# Altium schematic symbol library FIoT_BG96_1.SCHLIB: 21 symbols
Pins are listed as number, name and electrical type; pins without a type are passive.

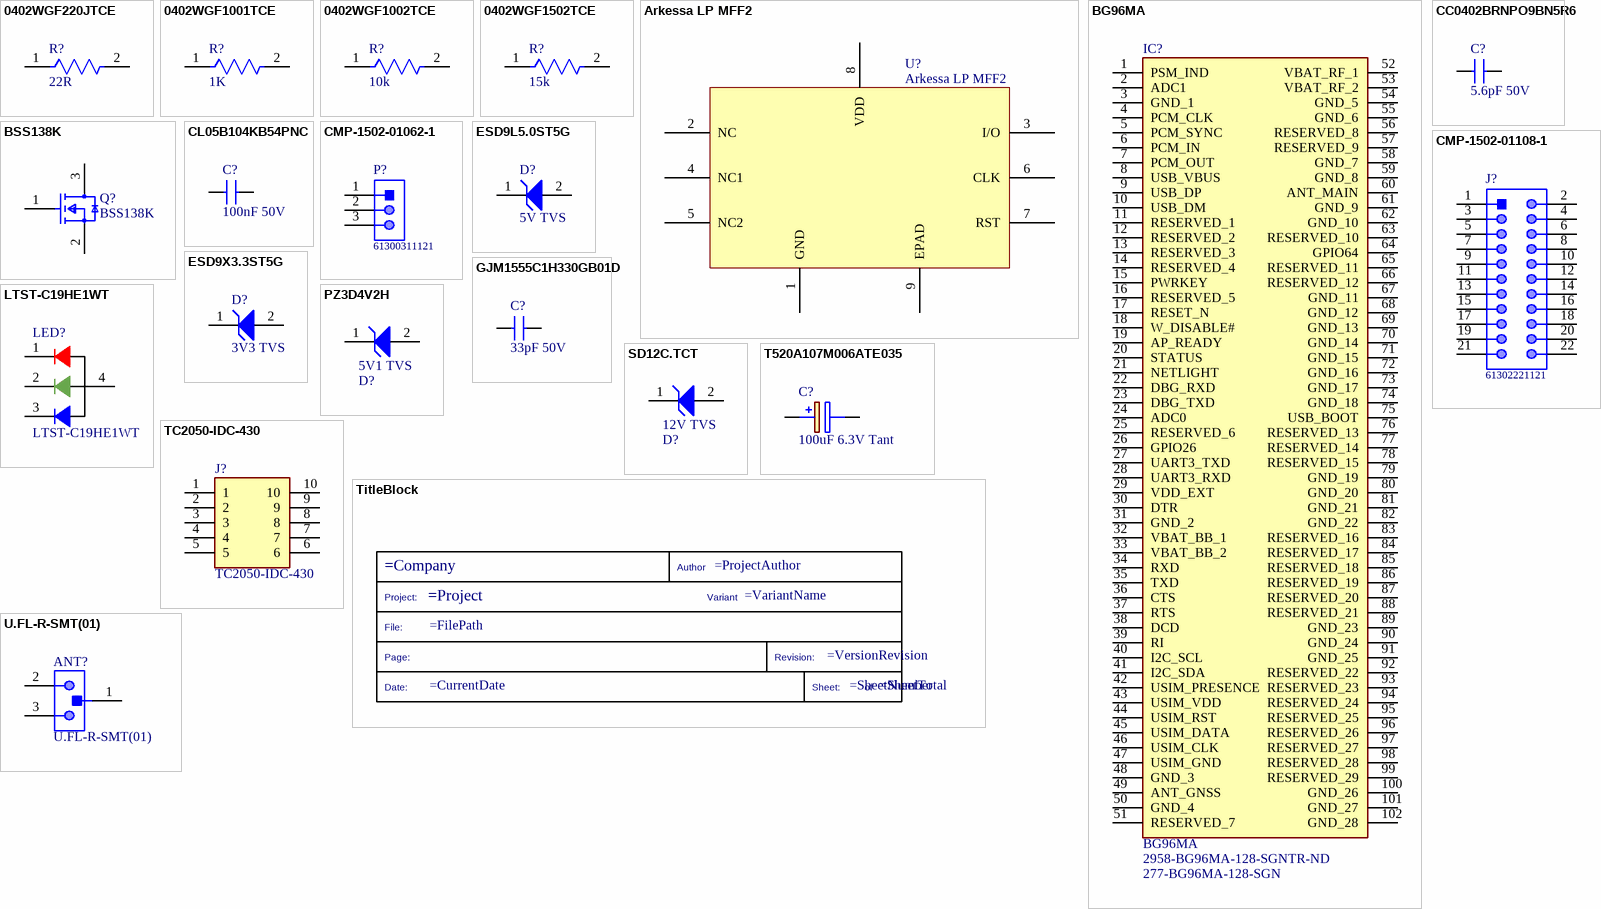
[diagram p0: symbols 0402WGF220JTCE to U.FL-R-SMT(01)]

## 0402WGF220JTCE
designator R?  Resistance: 22R  (hidden comment: 0402WGF220JTCE)
Res Thick Film 0402 22R Ohm 1% 0.063W; MFG Part Number: CRCW04021K00FKED; Power Rating: 63mW; Temperature Coefficient: 100ppm/°C; Voltage Rating (DC): 50V; MFG Name: Vishay Dale; Package Quantity: 10; Termination: SMD/SMT; Width: 0.5mm; Military Standard: Not; Length: 1mm; Contact Plating: Tin; Mount: Surface Mount; Packaging: Tape and Reel; Case Code (Imperial): 0402; Tolerance: 1%; Weight: 2.3E-05oz; Number of Pins: 2; Case/Package: 0402; Case Code (Metric): 1005; Lead Free: Lead Free; Number of Terminations: 2; Max Power Dissipation: 63mW; Depth: 0.5mm; Max Operating Temperature: 155°C; Height: 0.35mm; Features: Automotive AEC-Q200; Composition: Thick Film; Radiation Hardening: No; Voltage Rating: 50V; Min Operating Temperature: -55°C; JLCPCB Part #: Not available with JLC; JLC Footprint: R0402; Manufacturer: Vishay Dale; Manufacturer Part Number: CRCW04021K00FKED; Supplier 1: Mouser; Supplier Part Number 1: 303-0402WGF220JTCE
pins: 1, 2

## 0402WGF1001TCE
designator R?  Resistance: 1K  (hidden comment: 0402WGF1001TCE)
Res Thick Film 0402 1K Ohm 1% 0.063W; MFG Part Number: CRCW04021K00FKED; Power Rating: 63mW; Temperature Coefficient: 100ppm/°C; Voltage Rating (DC): 50V; MFG Name: Vishay Dale; Package Quantity: 10; Termination: SMD/SMT; Width: 0.5mm; Military Standard: Not; Length: 1mm; Contact Plating: Tin; Mount: Surface Mount; Packaging: Tape and Reel; Case Code (Imperial): 0402; Tolerance: 1%; Weight: 2.3E-05oz; Number of Pins: 2; Case/Package: 0402; Case Code (Metric): 1005; Lead Free: Lead Free; Number of Terminations: 2; Max Power Dissipation: 63mW; Depth: 0.5mm; Max Operating Temperature: 155°C; Height: 0.35mm; Features: Automotive AEC-Q200; Composition: Thick Film; Radiation Hardening: No; Voltage Rating: 50V; Min Operating Temperature: -55°C; JLCPCB Part #: Not available with JLC; JLC Footprint: R0402; Manufacturer: Vishay Dale; Manufacturer Part Number: CRCW04021K00FKED; Supplier 1: Mouser; Supplier Part Number 1: 303-0402WGF1001TCE
pins: 1, 2

## 0402WGF1002TCE
designator R?  Resistance: 10k  (hidden comment: 0402WGF1002TCE)
Res Thick Film 0402 10K Ohm 1% 0.063W; MFG Part Number: CRCW04021K00FKED; Power Rating: 63mW; Temperature Coefficient: 100ppm/°C; Voltage Rating (DC): 50V; MFG Name: Vishay Dale; Package Quantity: 10; Termination: SMD/SMT; Width: 0.5mm; Military Standard: Not; Length: 1mm; Contact Plating: Tin; Mount: Surface Mount; Packaging: Tape and Reel; Case Code (Imperial): 0402; Tolerance: 1%; Weight: 2.3E-05oz; Number of Pins: 2; Case/Package: 0402; Case Code (Metric): 1005; Lead Free: Lead Free; Number of Terminations: 2; Max Power Dissipation: 63mW; Depth: 0.5mm; Max Operating Temperature: 155°C; Height: 0.35mm; Features: Automotive AEC-Q200; Composition: Thick Film; Radiation Hardening: No; Voltage Rating: 50V; Min Operating Temperature: -55°C; JLCPCB Part #: Not available with JLC; JLC Footprint: R0402; Manufacturer: Vishay Dale; Manufacturer Part Number: CRCW04021K00FKED; Supplier 1: Mouser; Supplier 2: LCSC; Supplier Part Number 1: 303-0402WGF1002TCE; Supplier Part Number 2: C25744
pins: 1, 2

## 0402WGF1502TCE
designator R?, comment Resistance: 15k  (hidden comment: 0402WGF1502TCE0402WGF1002TCE)
Res Thick Film 0402 15K Ohm 1% 0.063W; MFG Part Number: CRCW04021K00FKED; Power Rating: 63mW; Temperature Coefficient: 100ppm/°C; Voltage Rating (DC): 50V; MFG Name: Vishay Dale; Package Quantity: 10; Termination: SMD/SMT; Width: 0.5mm; Military Standard: Not; Length: 1mm; Contact Plating: Tin; Mount: Surface Mount; Packaging: Tape and Reel; Case Code (Imperial): 0402; Tolerance: 1%; Weight: 2.3E-05oz; Number of Pins: 2; Case/Package: 0402; Case Code (Metric): 1005; Lead Free: Lead Free; Number of Terminations: 2; Max Power Dissipation: 63mW; Depth: 0.5mm; Max Operating Temperature: 155°C; Height: 0.35mm; Features: Automotive AEC-Q200; Composition: Thick Film; Radiation Hardening: No; Voltage Rating: 50V; Min Operating Temperature: -55°C; JLCPCB Part #: Not available with JLC; JLC Footprint: R0402; Manufacturer: Vishay Dale; Manufacturer Part Number: CRCW04021K00FKED; Supplier 1: Farnell; Supplier 2: Mouser; Supplier 3: LCSC; Supplier Part Number 1: 1127145; Supplier Part Number 2: 303-0402WGF1502TCE; Supplier Part Number 3: C25756
pins: 1, 2

## Arkessa LP MFF2
designator U?
ESIM; JLCPCB Part #: Not available with JLC; JLC Footprint: Not available with JLC; MFG Part Number: Arkessa LP MFF2; MFG Name: Arkessa
pins: 1 GND, 2 NC, 3 I/O, 4 NC1, 5 NC2, 6 CLK, 7 RST, 8 VDD, 9 EPAD

## BG96MA
designator IC?  Supplier Part Number 1: 2958-BG96MA-128-SGNTR-ND  Supplier Part Number 2: 277-BG96MA-128-SGN
Cellular EDGE, GPRS, GSM, HSPA, LTE, UMTS Transceiver Module 850MHz, 900MHz, 1.8GHz, 1.9GHz Antenna Not Included Surface Mount; Manufacturer_Name: Quectel; Datasheet Link: http://www.quectel.com/product/bg96.htm; Height: 2mm; Manufacturer_Part_Number: BG96MA; JLCPCB Part #: Not available with JLC; JLC Footprint: Not available with JLC; MFG Part Number: BG96MA; MFG Name: Quectel; Supplier 1: Digi-Key; Supplier 2: Mouser
pins: 1 PSM_IND, 2 ADC1, 3 GND_1, 4 PCM_CLK, 5 PCM_SYNC, 6 PCM_IN, 7 PCM_OUT, 8 USB_VBUS, 9 USB_DP, 10 USB_DM, 11 RESERVED_1, 12 RESERVED_2, 13 RESERVED_3, 14 RESERVED_4, 15 PWRKEY, 16 RESERVED_5, 17 RESET_N, 18 W_DISABLE#, 19 AP_READY, 20 STATUS, 21 NETLIGHT, 22 DBG_RXD, 23 DBG_TXD, 24 ADC0, 25 RESERVED_6, 26 GPIO26, 27 UART3_TXD, 28 UART3_RXD, 29 VDD_EXT, 30 DTR, 31 GND_2, 32 VBAT_BB_1, 33 VBAT_BB_2, 34 RXD, 35 TXD, 36 CTS, 37 RTS, 38 DCD, 39 RI, 40 I2C_SCL, 41 I2C_SDA, 42 USIM_PRESENCE, 43 USIM_VDD, 44 USIM_RST, 45 USIM_DATA, 46 USIM_CLK, 47 USIM_GND, 48 GND_3, 49 ANT_GNSS, 50 GND_4, 51 RESERVED_7, 52 VBAT_RF_1, 53 VBAT_RF_2, 54 GND_5, 55 GND_6, 56 RESERVED_8, 57 RESERVED_9, 58 GND_7, 59 GND_8, 60 ANT_MAIN, 61 GND_9, 62 GND_10, 63 RESERVED_10, 64 GPIO64, 65 RESERVED_11, 66 RESERVED_12, 67 GND_11, 68 GND_12, 69 GND_13, 70 GND_14, 71 GND_15, 72 GND_16, 73 GND_17, 74 GND_18, 75 USB_BOOT, 76 RESERVED_13, 77 RESERVED_14, 78 RESERVED_15, 79 GND_19, 80 GND_20, 81 GND_21, 82 GND_22, 83 RESERVED_16, 84 RESERVED_17, 85 RESERVED_18, 86 RESERVED_19, 87 RESERVED_20, 88 RESERVED_21, 89 GND_23, 90 GND_24, 91 GND_25, 92 RESERVED_22, 93 RESERVED_23, 94 RESERVED_24, 95 RESERVED_25, 96 RESERVED_26, 97 RESERVED_27, 98 RESERVED_28, 99 RESERVED_29, 100 GND_26, 101 GND_27, 102 GND_28

## BSS138K
designator Q?
MOSFET N-CH 50V 220MA SOT-23; MFG Part Number: BSS138; Turn-Off Delay Time: 20ns; Element Configuration: Single; Rds On Max: 3.5R; Gate to Source Voltage (Vgs): 20V; Threshold Voltage: 1.3V; Number of Elements: 1; Power Dissipation: 360mW; Rise Time: 9ns; Turn-On Delay Time: 2.5ns; Input Capacitance: 27pF; On-State Resistance: 6R; MFG Name: ON Semiconductor / Fairchild; Lead Free: Lead Free; Length: 2.92mm; Width: 1.3mm; Drain to Source Breakdown Voltage: 50V; Min Operating Temperature: -55°C; REACH SVHC: No SVHC; Packaging: Tape and Reel; Radiation Hardening: No; Height: 0.93mm; Drain to Source Voltage (Vdss): 50V; Current Rating: 220mA; Voltage Rating (DC): 50V; Weight: 0.03g; Continuous Drain Current (ID): 220mA; Number of Pins: 3; Nominal Vgs: 1.3V; Max Power Dissipation: 360mW; Fall Time: 9ns; Drain to Source Resistance: 3.5R; Contact Plating: Tin; Case/Package: SOT-23; Package Quantity: 1; Dual Supply Voltage: 50V; Mount: Surface Mount; Termination: SMD/SMT; Max Operating Temperature: 150°C; JLCPCB Part #: C52895; JLC Footprint: SOT-23-3; Manufacturer: ON Semiconductor / Fairchild; Manufacturer Part Number: BSS138; Supplier 1: Digi-Key; Supplier 2: Farnell; Supplier 3: Mouser; Supplier Part Number 1: BSS138K-13DICT-ND; Supplier Part Number 2: 3943470; Supplier Part Number 3: 621-BSS138K-13
pins: 1 G, 2 S, 3 D

## CC0402BRNPO9BN5R6
designator C?, comment value 5.6pF 50V  (hidden comment: GRM1555C1H6R0CA01D)
5.6pF 50V NP0 ±0.1pF 0402 MLCC; Manufacturer: TDK; Manufacturer Part Number: C1005C0G1H060C; MFG Name: Murata; Part Number: GRM1555C1H6R0CA01D; JLCPCB Part #: C162118; JLC Footprint: CAP-SMD; MFG Part Number: GRM1555C1H6R0CA01D; Supplier 1: Digi-Key; Supplier 2: Mouser; Supplier Part Number 1: 490-8222-1-ND; Supplier Part Number 2: 81-GRM1555C1H6R0CA1D
pins: 1, 2
1 alternate drawing of the same symbol

## CL05B104KB54PNC
designator C?  value 100nF 50V  (hidden comment: CL05B104KB54PNC)
100nF 50V X7R ±10% 0402 MLCC; Part Number: GRM1555C1H6R0CA01D; Manufacturer: TDK; Manufacturer Part Number: C1005C0G1H060C; MFG Name: Murata; JLCPCB Part #: C162118; JLC Footprint: CAP-SMD; MFG Part Number: GRM1555C1H6R0CA01D; Supplier 1: Digi-Key; Supplier 2: Mouser; Supplier Part Number 1: 1276-CL05B104KB54PNCCT-ND; Supplier Part Number 2: 187-CL05B104KB54PNC
pins: 1, 2
1 alternate drawing of the same symbol

## CMP-1502-01062-1
designator P?, comment 61300311121
THT Vertical Pin Header WR-PHD, Pitch 2.54 mm, Single Row, 3 pins; Manufacturer: Wurth Elektronik; Manufacturer: Wurth Electronics; Withstanding Voltage: 500VAC; Working Voltage: 250VAC; Rated Current: 3A; Pitch: 2.54mm; Pin Number: 3; Gender: Male; Contact Resistance: 20mOhm; Package Reference: 61300311121; Manufacturer URL: http://www.we-online.de; Datasheet URL: https://katalog.we-online.de/em/datasheet/6130xx11121.pdf; Operating Temperature: -40to105degC; Part Number: 61300311121; Orientation: Vertical; Packaging: Bag; Row Number: Single; Mounting Technology: THT; Publisher: WurthElektronik; Manufacturer Part Number: 61300311121
pins: 1, 2, 3

## CMP-1502-01108-1
designator J?, comment 61302221121
THT Vertical Pin Header WR-PHD, Pitch 2.54 mm, Dual Row, 22 pins; Manufacturer: Wurth Elektronik; Manufacturer: Wurth Electronics; Working Voltage: 250VAC; Pin Number: 22; Withstanding Voltage: 500VAC; Rated Current: 3A; Contact Resistance: 20mOhm; Gender: Male; Pitch: 2.54mm; Publisher: WurthElektronik; Part Number: 61302221121; Mounting Technology: THT; Row Number: Dual; Orientation: Vertical; Operating Temperature: -40to105degC; Manufacturer URL: http://www.we-online.de; Packaging: Bag; Datasheet URL: https://katalog.we-online.de/em/datasheet/6130xx21121.pdf; Package Reference: 61302221121; Manufacturer Part Number: 61302221121
pins: 1, 2, 3, 4, 5, 6, 7, 8, 9, 10, 11, 12, 13, 14, 15, 16, 17, 18, 19, 20, 21, 22

## ESD9L5.0ST5G
designator D?  value 5V TVS  (hidden comment: ESD9L5.0ST5G)
Transient Voltage Suppressor, ESD Protection Diode with Ultra-Low Capacitance, 2-Pin SOD-923, Pb-Free, Tape and Reel; Manufacturer: ON Semiconductor; IR Max (uA): 1; VRWM Max (V): 5; V(BR) Min (V): 5.4; C Max (pF): 0.9; Direction: Unidirectional; MFG Name: onsemi; RoHS: Pb-Free; Packing: Tape and Reel; Mounting Technology: Surface Mount; ComponentLink3Description: Package Specification; PackageDescription: 2-Pin SOD, Body 0.8 x 0.6 mm; ComponentLink2Description: Datasheet; PackageReference: SOD-923-2-514AB-01; PartNumber: ESD9L5.0ST5G; ComponentLink1Description: Manufacturer URL; PackageVersion: Rev. C, 03/2011; Number of Lines: 1; ComponentLink3URL: http://www.onsemi.com/pub_link/Collateral/514AB.PDF; DatasheetVersion: Rev. 5; ComponentLink2URL: http://www.onsemi.cn/pub_link/Collateral/ESD9L-D.PDF; ComponentLink1URL: http://www.onsemi.com/; Manufacturer_Part_Number: ESD9L5.0ST5G; Manufacturer_Name: On Semiconductor; Manufacturer Part Number: ESD9L5.0ST5G; MFG Part Number: ESD9L5.0ST5G; JLCPCB Part #: C82326; JLC Footprint: SOD-923; Supplier 1: Digi-Key; Supplier 2: Mouser; Supplier 3: LCSC; Supplier Part Number 1: ESD9L5.0ST5GOSCT-ND; Supplier Part Number 2: 863-ESD9L5.0ST5G; Supplier Part Number 3: C82326
pins: 1 K, 2 A

## ESD9X3.3ST5G
designator D?  value 3V3 TVS  (hidden comment: ESD9X3.3ST5G)
Transient Voltage Suppressor, Micro-Packaged Diode for ESD Protection, 2-Pin SOD-923, Pb-Free, Tape and Reel; Manufacturer: On Semiconductor; V(BR) Min (V): 5; Direction: Unidirectional; VRWM Max (V): 3.3; Number of Lines: 1; IR Max (uA): 2.5; ComponentLink3URL: http://www.onsemi.com/pub_link/Collateral/514AA.PDF; ComponentLink1URL: http://www.onsemi.com/; ComponentLink2Description: Datasheet; ComponentLink2URL: http://www.onsemi.cn/pub_link/Collateral/ESD9X3.3ST5G-D.PDF; PackageVersion: Rev. E, 03/2011; PackageReference: SOD-923-2-514AA-01; PartNumber: ESD9X3.3ST5G; Mounting Technology: Surface Mount; RoHS: Pb-Free; ComponentLink1Description: Manufacturer URL; Packing: Tape and Reel; ComponentLink3Description: Package Specification; DatasheetVersion: Rev. 7; PackageDescription: 2-Pin SOD, Body 0.8 x 0.6 mm; JLCPCB Part #: C130456; JLC Footprint: SOD-923; MFG Part Number: ESD9X3.3ST5G; MFG Name: ON Semiconductor; Manufacturer: ON Semiconductor; Manufacturer Part Number: ESD9X3.3ST5G; Supplier 1: Farnell; Supplier 2: Mouser; Supplier 3: LCSC; Supplier Part Number 1: 2627963; Supplier Part Number 2: 863-ESD9X3.3ST5G; Supplier Part Number 3: C130456
pins: 1 K, 2 A

## GJM1555C1H330GB01D
designator C?  value 33pF 50V  (hidden comment: GJM1555C1H330GB01D)
33pF 50V C0G ±2% 0402 MLCC; Part Number: GRM1555C1H6R0CA01D; Manufacturer: TDK; Manufacturer Part Number: C1005C0G1H060C; MFG Name: Murata; JLCPCB Part #: C162118; JLC Footprint: CAP-SMD; MFG Part Number: GRM1555C1H6R0CA01D; Supplier 1: Farnell; Supplier 2: Digi-Key; Supplier 3: Mouser; Supplier Part Number 1: 3784396; Supplier Part Number 2: 490-GJM1555C1H330GB01DCT-ND; Supplier Part Number 3: 81-GJM1555C1H330GB1D
pins: 1, 2
1 alternate drawing of the same symbol

## LTST-C19HE1WT
designator LED?
Red, Green, Blue _RGB_ 624nm Red, 525nm Green, 470nm Blue LED Indication - Discrete 2.1V Red, 3.35V Green, 3.35V Blue 0606 _1616 Metric_; MF: Lite-On Inc.; MP: LTST-C19HE1WT; Value: *; SnapEDA_Link: https://www.snapeda.com/parts/LTST-C19HE1WT/Lite-On%20Inc./view-part/423425/?ref=snap; Price: None; Package: 0606 Lite-On; Availability: Unavailable; Supplier 1: Digi-Key; Supplier 2: Mouser; Supplier Part Number 1: 160-2162-1-ND; Supplier Part Number 2: 859-LTST-C19HE1WT
pins: 1, 2, 3, 4

## PZ3D4V2H
designator D?  (value not drawn)
5uA@4.2V 55Ω Single 500mW 5.1V SOD-323 Zener Diodes ROHS; Mfr_Name: Semtech; Manufacturer_Part_Number: SD12C.TCT; Type: DEV; Copyright: Copyright (C) 2022 Ultra Librarian. All rights reserved.; RefDes: RefDes
pins: 1 K, 2 A
text: 5V1 TVS

## SD12C.TCT
designator D?  (value not drawn)
TVS DIODE 12VWM 24VC SOD323; Mfr_Name: Semtech; Type: DEV; Copyright: Copyright (C) 2022 Ultra Librarian. All rights reserved.; Manufacturer_Part_Number: SD12C.TCT; RefDes: RefDes; Supplier 1: Digi-Key; Supplier 2: Mouser; Supplier 3: LCSC; Supplier Part Number 1: SD12C.TCTCT-ND; Supplier Part Number 2: 947-SD12C.TCT; Supplier Part Number 3: C85198
pins: 1 K, 2 A
text: 12V TVS

## T520A107M006ATE035
designator C?  value 100uF 6.3V Tant  (hidden comment: T520A107M006ATE035)
Tantalum Capacitors - Polymer 6.3 VDC 100uF 1206 20% ESR=35mOhms; Manufacturer_Name: Kemet; Datasheet Link: https://search.kemet.com/component-edge/download/specsheet/T520A107M006ATE035.pdf; Height: 1.8mm; Manufacturer_Part_Number: T520A107M006ATE035; Mouser Part Number: 80-T520A107M006AT; Mouser Price/Stock: https://www.mouser.co.uk/ProductDetail/KEMET/T520A107M006ATE035?qs=QvRObDHRS18agZVs%252BDin8A%3D%3D; Arrow Part Number: T520A107M006ATE035; Arrow Price/Stock: https://www.arrow.com/en/products/t520a107m006ate035/kemet-corporation; JLCPCB Part #: Not available with JLC; JLC Footprint: Not available with JLC; MFG Part Number: T520A107M006ATE035; MFG Name: Kemet; Supplier 1: Farnell; Supplier 2: Mouser; Supplier Part Number 1: 2855176; Supplier Part Number 2: 80-T520A107M006AT
pins: 1 +, 2 -

## TC2050-IDC-430
designator J?  (no BOM)
Connector; Manufacturer_Name: Tag Connect; Datasheet Link: https://datasheet.datasheetarchive.com/originals/distributors/Datasheets_SAMA/8a7b9a42a753a5cbaca4256ee093e59c.pdf; Manufacturer_Part_Number: TC2050-IDC-430
pins: 1, 2, 3, 4, 5, 6, 7, 8, 9, 10

## TitleBlock
designator *?  (value not drawn)  (graphical)
text: Author; Project:; Variant; File:; Page:; Revision:; Date:; Sheet:; of

## U.FL-R-SMT(01)
designator ANT?
CONN RECPT ULTRA-MINI COAX SMD; Manufacturer: Hirose Electric; Centre Contact Resistance: 25mohm; Voltage Rating V AC: 60V; Female Contact Material: PhosphorBronze; Contact Resistance: 10mohm; Male Contact Material: Brass; Connector Type: UFLCoaxial; Connector Mounting: PCB; Impedance: 50ohm; Insulation Resistance: 500Mohm; Secondary Insulation Material: PBT; Frequency Max: 6GHz; Body Plating: Silver; External Length / Height: 2.5mm; Approval Category: UL94V-0; Female Contact Plating: Gold; Connector Mounting Orientation: PCBoard; VSWR: 1.3; Coaxial Termination: Solder; Body Style: StraightJack; SVHC: NoSVHC(18-Jun-2012); Jacket Material: LCP; MFG Name: Hirose; Package Reference: U.FL-R-SMT(10); Datasheet Version: Feb-04; Outer Contact Resistance: 10mohm; Contact Plating: Gold; Mounting Type: PCBoard; Flammability Rating: UL94V-0; Operating Frequency Max: 6GHz; Termination Method: Solder; Male Contact Plating: Gold; Package Description: 3-Pin Surface Mount Device, Body 2.6 x 2.6 mm; Operating Temperature Min: -40degC; Manufacturer URL: https://www.hirose.com; Operating Temperature Max: 90degC; Contact Material: PhosphorBronze; Datasheet URL: http://www.farnell.com/datasheets/91524.pdf; Material: PhosphorBronze; MFG Part Number: U.FL-R-SMT(01); JLC Footprint: ANT-SMD; JLCPCB Part #: C434812; Manufacturer: Hirose; Manufacturer Part Number: U.FL-R-SMT(01); Supplier 1: Farnell; Supplier 2: Digi-Key; Supplier 3: Mouser; Supplier Part Number 1: 3908021; Supplier Part Number 2: H9161-ND; Supplier Part Number 3: 798-U.FL-R-SMT01; Value: U.FL-R-SMT(01)
pins: 1, 2, 3